# EAGLE library part LT3694 (library PowerProducts)
LT-Spice library generated with : ltspice.ulp from: D:/Program Files (x86)/LTC/LTspiceIV/lib/sym/PowerProducts/LT3694-1*.asy at 07.10.2012 16:35:16
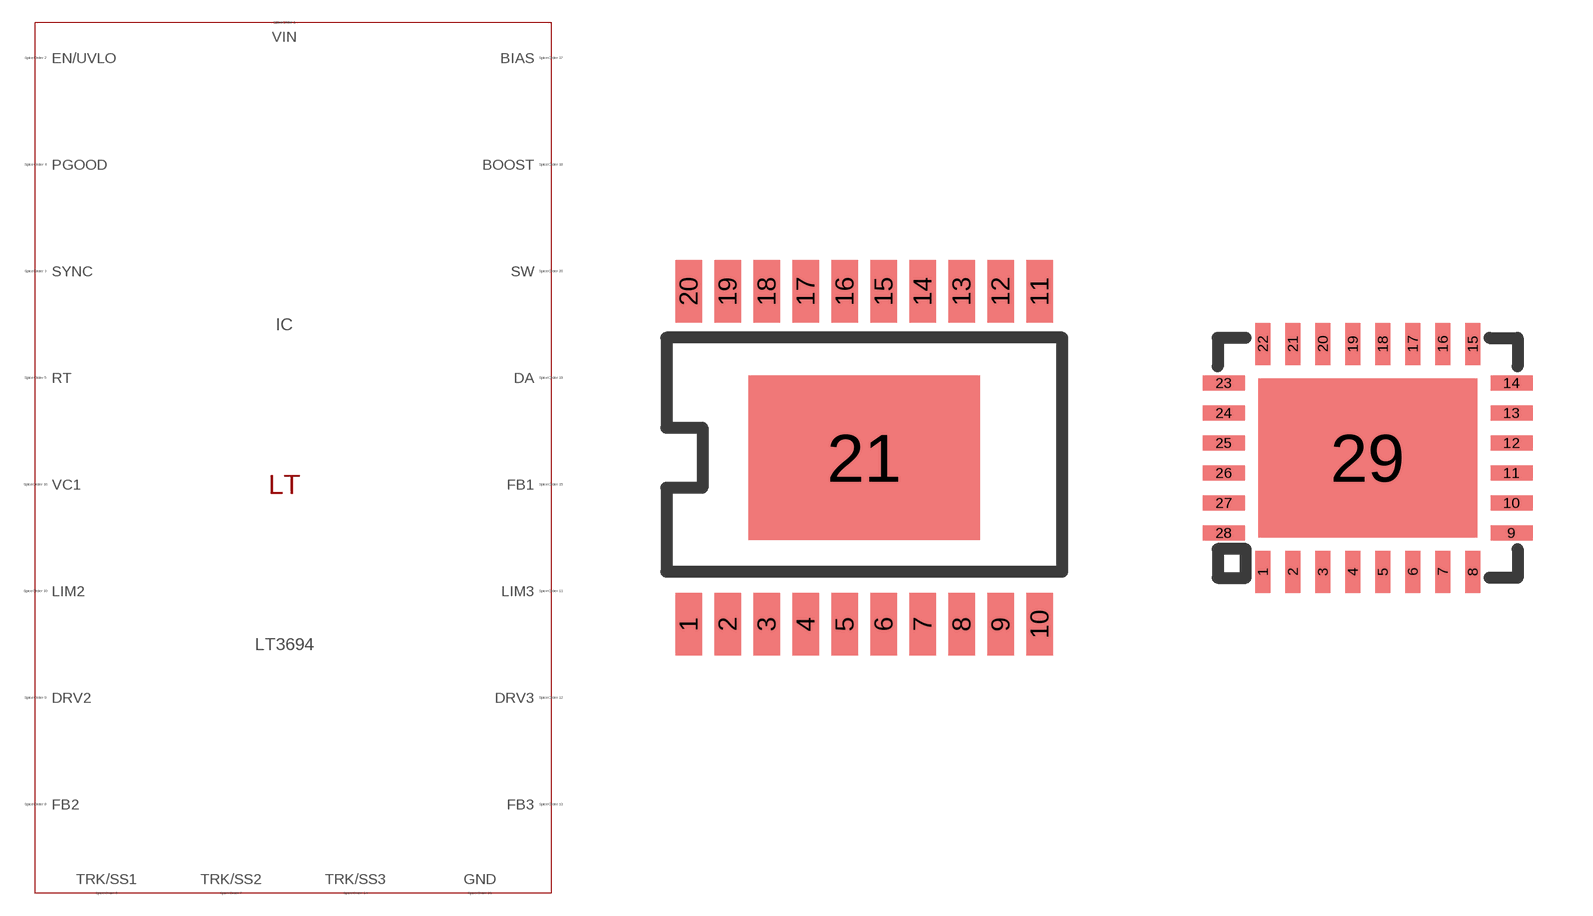
[diagram p89: symbol with the pads of TSSOP20CB(FE); footprints TSSOP20CB(FE), QFN28(UFD)]

Designator prefix IC

## LT3694 (SPICEMODEL: LT3694.sub; SPICEPREFIX: X; VALUE2: LT3694)  [TSSOP20CB(FE)]
1  VIN  pas
2  EN/UVLO  pas
3  SYNC  pas
4  PGOOD  pas
5  RT  pas
6  TRK/SS1  pas
7  TRK/SS2  pas
8  FB2  pas
9  DRV2  pas
10  LIM2  pas
11  LIM3  pas
12  DRV3  pas
13  FB3  pas
14  TRK/SS3  pas
15  FB1  pas
16  VC1  pas
17  BIAS  pas
18  BOOST  pas
19  DA  pas
20  SW  pas
21  GND  pas

## LT3694UFD (SPICEMODEL: LT3694.sub; SPICEPREFIX: X; VALUE2: LT3694)  [QFN28(UFD)]
1  EN/UVLO  pas
2  SYNC  pas
3  PGOOD  pas
4  RT  pas
5  TRK/SS1  pas
6  TRK/SS2  pas
7  FB2  pas
8  DRV2  pas
9  LIM2  pas
10  GND  pas
11  GND  pas
12  GND  pas
13  GND  pas
14  LIM3  pas
15  DRV3  pas
16  FB3  pas
17  TRK/SS3  pas
18  FB1  pas
19  VC1  pas
20  BIAS  pas
21  BOOST  pas
22  DA  pas
23  SW  pas
24  SW  pas
25  GND  pas
26  GND  pas
27  VIN  pas
28  VIN  pas
29  GND  pas

## Footprint TSSOP20CB(FE) (pad centres in mm)
Package generated from: TSSOP20CB(FE).asc (!PADS-POWERPCB-V5.0-BASIC! DESIGN DATABASE ASCII FILE 1.0) with :import-pads-powerpcb-v5.ulp Version 1.0.1 at 04.10.2012 14:11:40
smd 0.66 x 1.575: 1 -4.388,-4.162; 2 -3.413,-4.162; 3 -2.438,-4.162; 4 -1.462,-4.162; 5 -0.487,-4.162; 6 0.487,-4.162; 7 1.462,-4.162; 8 2.438,-4.162; 9 3.413,-4.162; 10 4.388,-4.162; 11 4.388,4.162; 12 3.413,4.162; 13 2.438,4.162; 14 1.462,4.162; 15 0.487,4.162; 16 -0.487,4.162; 17 -1.462,4.162; 18 -2.438,4.162; 19 -3.413,4.162; 20 -4.388,4.162
smd 5.79 x 4.11: 21 0,0

## Footprint QFN28(UFD) (pad centres in mm)
Package generated from: QFN28(UFD).asc (!PADS-POWERPCB-V5.0-BASIC! DESIGN DATABASE ASCII FILE 1.0) with :import-pads-powerpcb-v5.ulp Version 1.0.1 at 04.10.2012 14:11:25
smd 0.375 x 1.05: 1 -2.625,-2.85; 2 -1.875,-2.85; 3 -1.125,-2.85; 4 -0.375,-2.85; 5 0.375,-2.85; 6 1.125,-2.85; 7 1.875,-2.85; 8 2.625,-2.85; 15 2.625,2.85; 16 1.875,2.85; 17 1.125,2.85; 18 0.375,2.85; 19 -0.375,2.85; 20 -1.125,2.85; 21 -1.875,2.85; 22 -2.625,2.85
smd 1.05 x 0.375: 9 3.6,-1.875; 10 3.6,-1.125; 11 3.6,-0.375; 12 3.6,0.375; 13 3.6,1.125; 14 3.6,1.875; 23 -3.6,1.875; 24 -3.6,1.125; 25 -3.6,0.375; 26 -3.6,-0.375; 27 -3.6,-1.125; 28 -3.6,-1.875
smd 5.475 x 3.975: 29 0,0